# Altium footprint library 691 701 540 0xx B.PcbLib: 11 footprints
Each footprint in its own frame and in the unit in brackets; x right, y up, seen from the top. Pads: shape width x height; smd on the part's side, far side on the other; paste and mask are expansions set on the pad; w line width, h text height; cw(c..) or ccw(c..) is an arc to the next point about the centre after c.
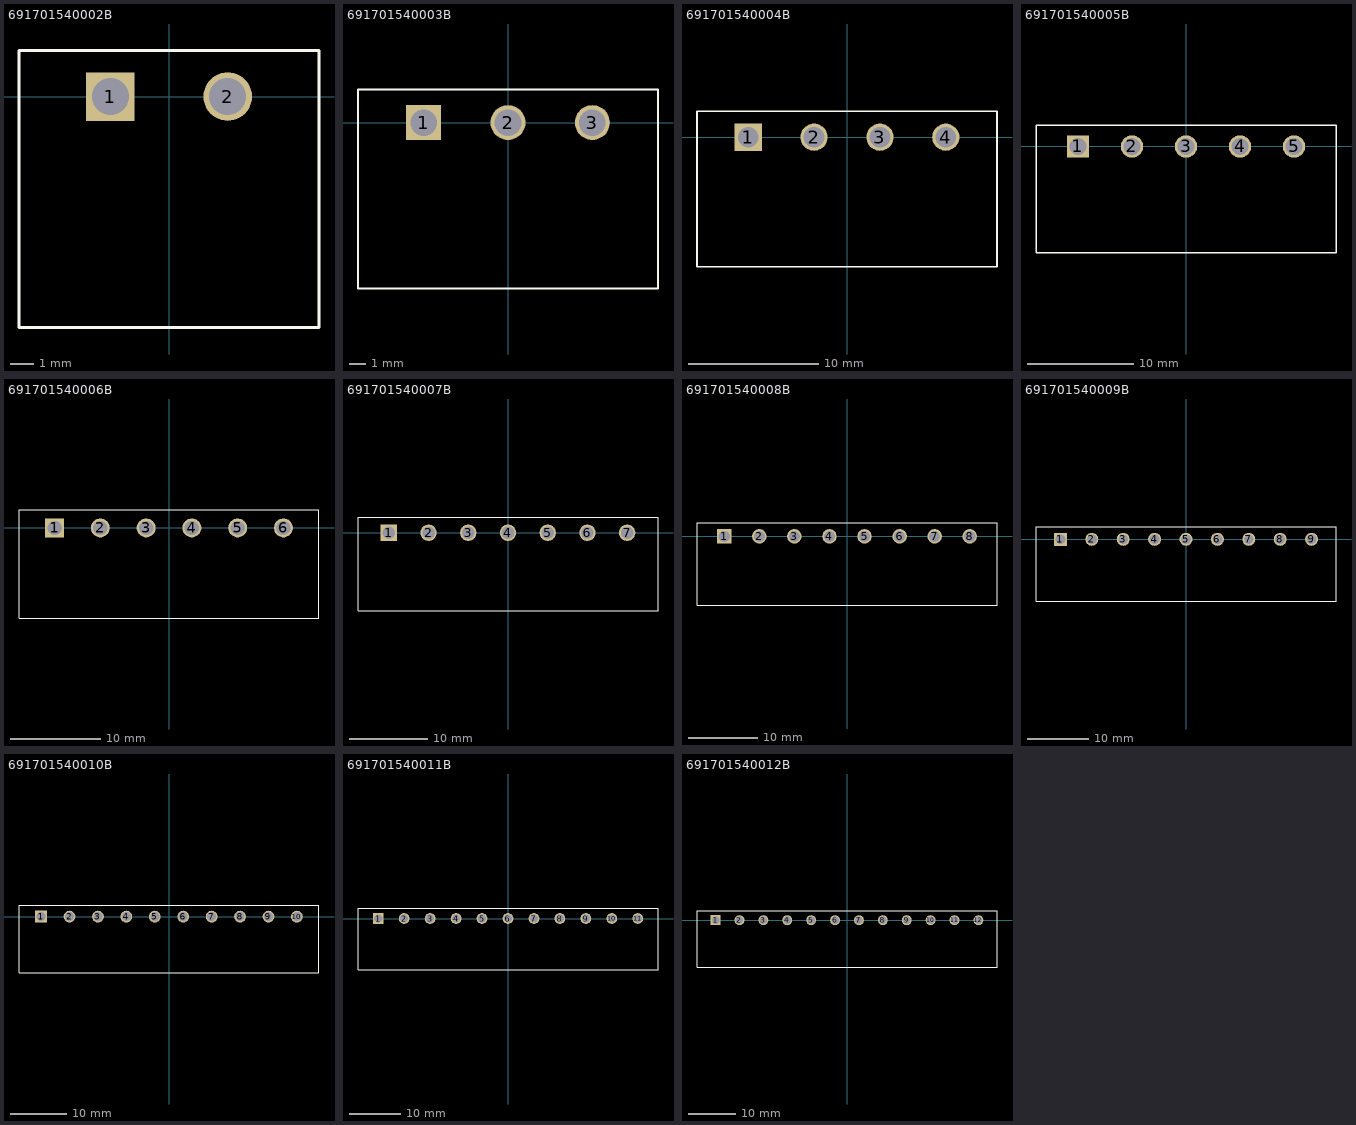
[diagram p0: the footprints below, top view; thin cyan lines are the x and y axes]

## 691701540002B [mm] "THR - 5,08mm - PCB Horizontal Close - 02p"
height 8.5
pads (2):
  rect 2.1x2.1 hole 1.6: 1(-2.54,0)
  round 2.1 hole 1.6: 2(2.54,0)
Top Overlay:
  lines w0.127: -6.49,-10 -6.49,2 ; -6.49,-10 6.49,-10 ; -6.49,-10 6.49,-10 ; -6.49,2 6.49,2 ; -6.49,2 6.49,2 ; 6.49,-10 6.49,2
3D body: height 8.6, standoff -2.7, extent -6.48,-10 6.48,2

## 691701540003B [mm] "THR - 5,08mm - PCB Horizontal Close - 03p"
height 8.5
pads (3):
  rect 2.1x2.1 hole 1.6: 1(-5.08,0)
  round 2.1 hole 1.6: 2(0,0) 3(5.08,0)
Top Overlay:
  lines w0.127: -8.98,-10 8.98,-10 ; -8.98,2 8.98,2 ; -9.03,-10 9.03,-10 9.03,2 -9.03,2 -9.03,-10
3D body: height 8.6, standoff -2.7, extent -9.02,-10 9.02,2

## 691701540004B [mm] "THR - 5,08mm - PCB Horizontal Close - 04p"
height 8.5
pads (4):
  rect 2.1x2.1 hole 1.6: 1(-7.62,0)
  round 2.1 hole 1.6: 2(-2.54,0) 3(2.54,0) 4(7.62,0)
Top Overlay:
  lines w0.127: -11.52,-10 11.52,-10 ; -11.52,2 11.52,2 ; -11.57,-10 -11.57,2 11.57,2 11.57,-10 -11.57,-10
3D body: height 8.6, standoff -2.7, extent -11.56,-9.9 11.56,2.1

## 691701540005B [mm] "THR - 5,08mm - PCB Horizontal Close - 05p"
height 8.5
pads (5):
  rect 2.1x2.1 hole 1.6: 1(-10.16,0)
  round 2.1 hole 1.6: 2(-5.08,0) 3(0,0) 4(5.08,0) 5(10.16,0)
Top Overlay:
  lines w0.127: -14.06,-10 14.11,-10 14.11,2 -14.06,2 ; 14.06,-10 -14.11,-10 -14.11,2 14.06,2
3D body: height 8.6, standoff -2.7, extent -14.1,-9.9 14.1,2.1

## 691701540006B [mm] "THR - 5,08mm - PCB Horizontal Close - 06p"
height 8.5
pads (6):
  rect 2.1x2.1 hole 1.6: 1(-12.7,0)
  round 2.1 hole 1.6: 2(-7.62,0) 3(-2.54,0) 4(2.54,0) 5(7.62,0) 6(12.7,0)
Top Overlay:
  lines w0.127: -16.6,-10 16.65,-10 16.65,2 -16.6,2 ; 16.6,-10 -16.65,-10 -16.65,2 16.6,2
3D body: height 8.6, standoff -2.7, extent -16.64,-9.9 16.64,2.1

## 691701540007B [mm] "THR - 5,08mm - PCB Horizontal Close - 07p"
height 8.5
pads (7):
  rect 2.1x2.1 hole 1.6: 1(-15.24,0)
  round 2.1 hole 1.6: 2(-10.16,0) 3(-5.08,0) 4(0,0) 5(5.08,0) 6(10.16,0) 7(15.24,0)
Top Overlay:
  lines w0.127: -19.14,-10 19.19,-10 19.19,2 -19.14,2 ; 19.14,-10 -19.19,-10 -19.19,2 19.14,2
3D body: height 8.6, standoff -2.7, extent -19.28,-10 19.08,2

## 691701540008B [mm] "THR - 5,08mm - PCB Horizontal Close - 08p"
height 8.5
pads (8):
  rect 2.1x2.1 hole 1.6: 1(-17.78,0)
  round 2.1 hole 1.6: 2(-12.7,0) 3(-7.62,0) 4(-2.54,0) 5(2.54,0) 6(7.62,0) 7(12.7,0) 8(17.78,0)
Top Overlay:
  lines w0.127: -21.68,-10 21.73,-10 21.73,2 -21.68,2 ; 21.68,-10 -21.73,-10 -21.73,2 21.68,2
3D body: height 8.6, standoff -2.7, extent -21.72,-9.9 21.72,2.1

## 691701540009B [mm] "THR - 5,08mm - PCB Horizontal Close - 09p"
height 8.5
pads (9):
  rect 2.1x2.1 hole 1.6: 1(-20.32,0)
  round 2.1 hole 1.6: 2(-15.24,0) 3(-10.16,0) 4(-5.08,0) 5(0,0) 6(5.08,0) 7(10.16,0) 8(15.24,0) 9(20.32,0)
Top Overlay:
  lines w0.127: -24.22,-10 24.27,-10 24.27,2 -24.22,2 ; 24.22,-10 -24.27,-10 -24.27,2 24.22,2
3D body: height 8.6, standoff -2.7, extent -24.36,-10 24.16,2

## 691701540010B [mm] "THR - 5,08mm - PCB Horizontal Close - 10p"
height 8.5
pads (10):
  rect 2.1x2.1 hole 1.6: 1(-22.86,0)
  round 2.1 hole 1.6: 2(-17.78,0) 3(-12.7,0) 4(-7.62,0) 5(-2.54,0) 6(2.54,0) 7(7.62,0) 8(12.7,0) 9(17.78,0) 10(22.86,0)
Top Overlay:
  lines w0.127: -26.76,-10 26.81,-10 26.81,2 -26.76,2 ; 26.76,-10 -26.81,-10 -26.81,2 26.76,2
3D body: height 8.6, standoff -2.7, extent -26.7,-9.9 26.9,2.1

## 691701540011B [mm] "THR - 5,08mm - PCB Horizontal Close - 11p"
height 8.5
pads (11):
  rect 2.1x2.1 hole 1.6: 1(-25.4,0)
  round 2.1 hole 1.6: 2(-20.32,0) 3(-15.24,0) 4(-10.16,0) 5(-5.08,0) 6(0,0) 7(5.08,0) 8(10.16,0) 9(15.24,0) 10(20.32,0) 11(25.4,0)
Top Overlay:
  lines w0.127: -29.3,-10 29.35,-10 29.35,2 -29.3,2 ; 29.3,-10 -29.35,-10 -29.35,2 29.3,2
3D body: height 8.6, standoff -2.7, extent -29.3,-9.9 29.38,2.1

## 691701540012B [mm] "THR - 5,08mm - PCB Horizontal Close - 12p"
height 8.5
pads (12):
  rect 2.1x2.1 hole 1.6: 1(-27.94,0)
  round 2.1 hole 1.6: 2(-22.86,0) 3(-17.78,0) 4(-12.7,0) 5(-7.62,0) 6(-2.54,0) 7(2.54,0) 8(7.62,0) 9(12.7,0) 10(17.78,0) 11(22.86,0) 12(27.94,0)
Top Overlay:
  lines w0.127: -31.84,-10 31.89,-10 31.89,2 -31.84,2 ; 31.84,-10 -31.89,-10 -31.89,2 31.84,2
3D body: height 8.6, standoff -2.7, extent -31.88,-10 31.88,2